# Altium integrated library CRYSTAL.IntLib: 4 symbols
Pins are listed as number, name and electrical type; pins without a type are passive.

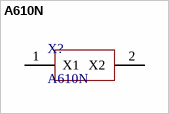
[diagram p0: symbol A610N]

## A610N
designator X?
footprint A610N(CRYSTALCP3215X09N) (Chip Crystal, 2-Leads, Body 3.2x1.5mm, IPC Medium Density)
pins: 1 X1, 2 X2


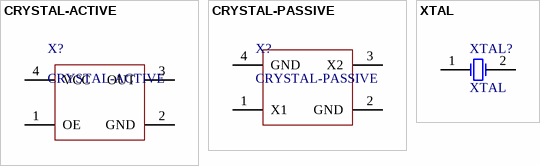
[diagram p1: symbols CRYSTAL-ACTIVE to XTAL]

## CRYSTAL-ACTIVE
designator X?
footprint CRYSTAL-3225
pins: 1 OE, 2 GND, 3 OUT, 4 VCC

## CRYSTAL-PASSIVE
designator X?
footprint CRYSTAL-3225
pins: 1 X1, 2 GND, 3 X2, 4 GND

## XTAL
designator XTAL?
Crystal Oscillator; Published: 8-Jun-2000; LatestRevisionDate: 17-Jul-2002; LatestRevisionNote: Re-released for DXP Platform.; Publisher: Altium Limited
footprint XTAL_49SMD
pins: 1 OSC1, 2 OSC2